# Altium schematic symbol library S1751-46.SchLib: 1 symbol
Pins are listed as number, name and electrical type; pins without a type are passive.

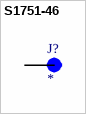
[diagram p0: symbol S1751-46]

## S1751-46
designator J?
SMT Test Point, 2mm high, tin, Loose; MF: Harwin; MP: S1751-46; SnapEDA_Link: https://www.snapeda.com/parts/S1751-46/Harwin+Inc./view-part/?ref=snap; Package: None; Value: *; Check_prices: https://www.snapeda.com/parts/S1751-46/Harwin+Inc./view-part/?ref=eda
footprint HARWIN_S1751-46
pins: 1 TP